# Altium schematic symbol library TOTX1950A_F_.SchLib: 1 symbol
Pins are listed as number, name and electrical type; pins without a type are passive.

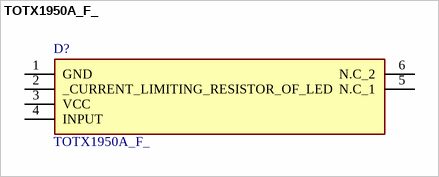
[diagram p0: symbol TOTX1950A_F_]

## TOTX1950A_F_
designator D?
Fiber Optic Transmitters, Receivers, Transceivers 650 nm LED OPTICAL TRANSMN MOD; Manufacturer_Name: Toshiba; Manufacturer_Part_Number: TOTX1950A(F); Geometry.Height: 8.8mm; Mouser Part Number: 757-TOTX1950AF; Mouser Price/Stock: https://www.mouser.co.uk/ProductDetail/Toshiba/TOTX1950AF?qs=gev7jUp%252BQ%252BhDjDGaeAaJXw%3D%3D; Datasheet Link: *
footprint TOTX1950AF
pins: 1 GND, 2 _CURRENT_LIMITING_RESISTOR_OF_LED, 3 VCC, 4 INPUT, 5 N.C_1, 6 N.C_2